# Altium footprint library SimpleFOCDriver.PcbLib: 14 footprints
Each footprint in its own frame and in the unit in brackets; x right, y up, seen from the top. Pads: shape width x height; smd on the part's side, far side on the other; paste and mask are expansions set on the pad; w line width, h text height; cw(c..) or ccw(c..) is an arc to the next point about the centre after c.
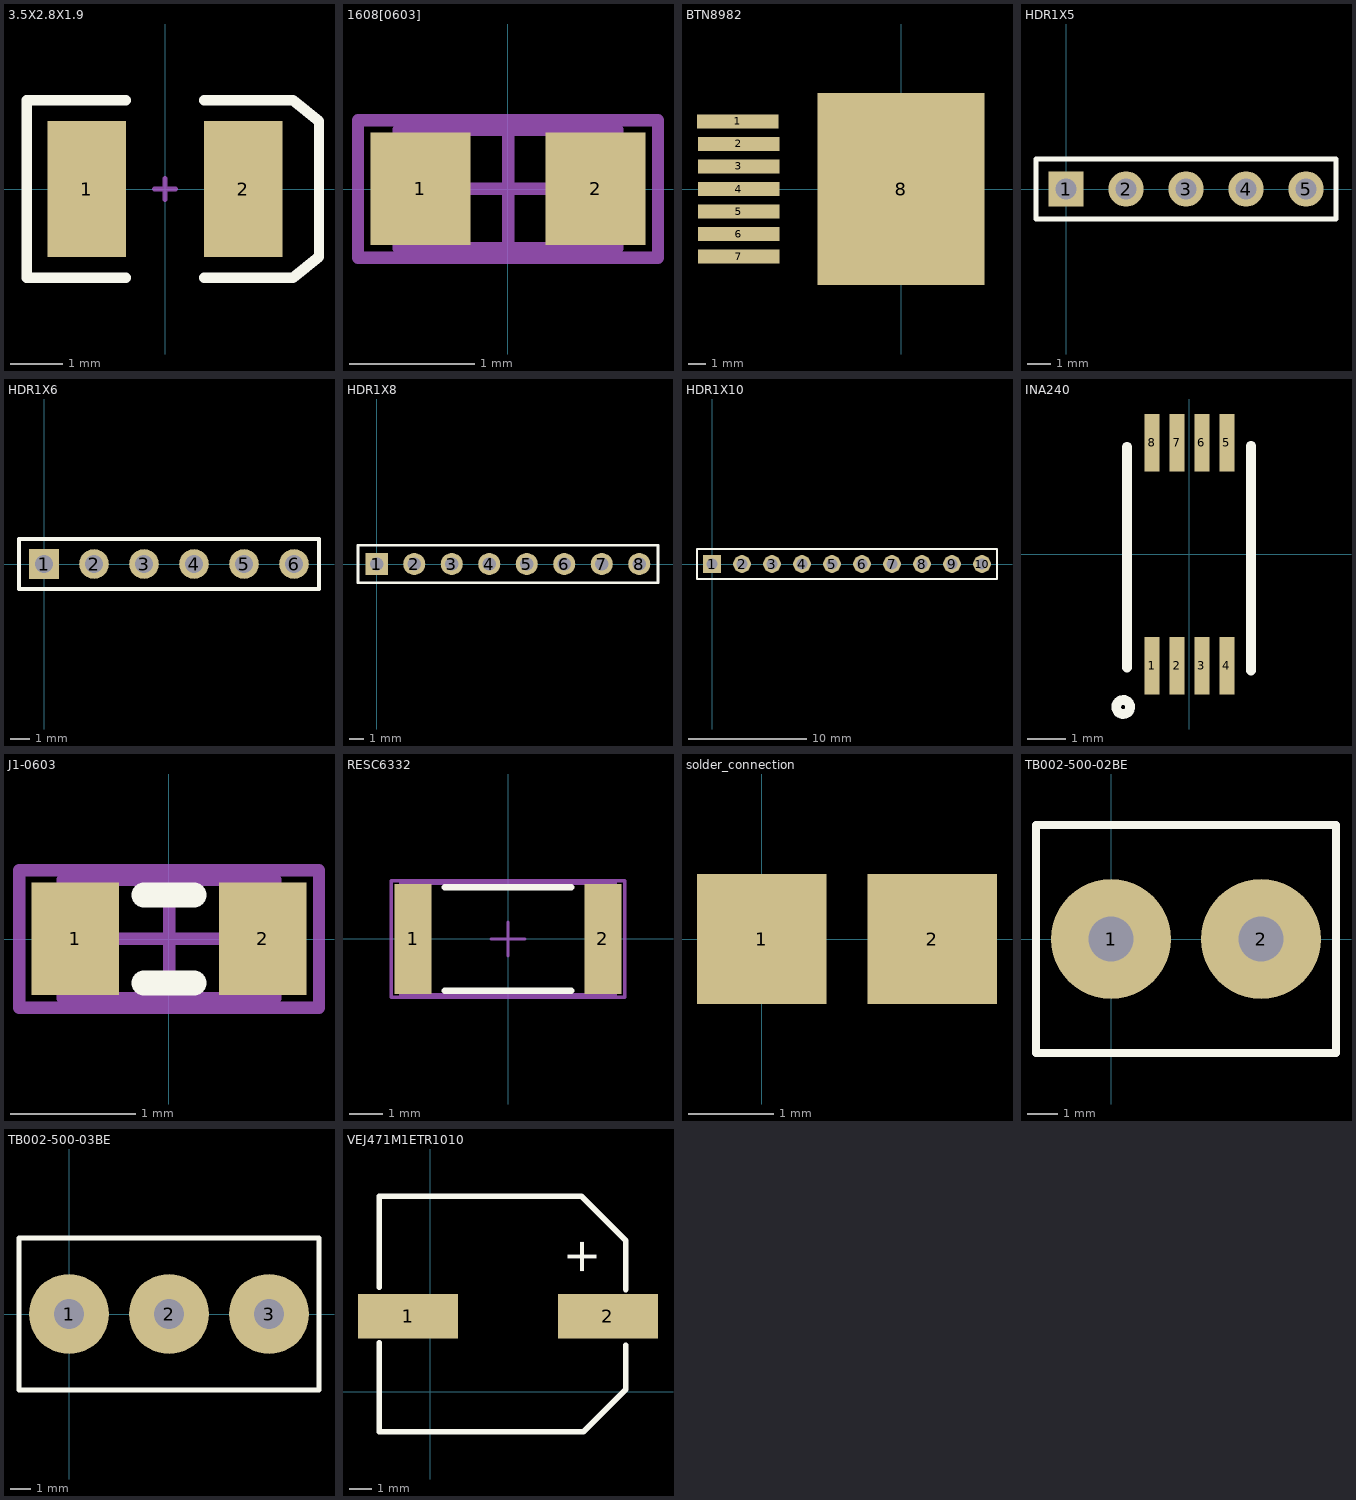
[diagram p0: the footprints below, top view; thin cyan lines are the x and y axes]

## 3.5X2.8X1.9 [mm] "SM LED; 2 C-Bend Leads; Body 3.5 x 2.8 x 1.9 mm, inc leads (LxWxH typ)"
height 1.9
pads (2):
  rect 1.5x2.6 smd: 1(-1.5,0) 2(1.5,0)
Top Overlay:
  lines w0.2: -0.75,-1.7 -2.65,-1.7 -2.65,1.7 -0.75,1.7 ; 0.75,-1.7 2.45,-1.7 2.95,-1.3 2.95,1.3 2.45,1.7 0.75,1.7
Mechanical 1:
  lines w0.1: -0.2,0 0.2,0 ; 0,-0.2 0,0.2

## 1608[0603] [mm] "Chip Capacitor, Body 1.6x0.8mm, IPC High Density"
height 1.3
pads (2):
  rect 0.8x0.9 smd: 1(-0.7,0) 2(0.7,0)
Mechanical 13:
  lines w0.1: -0.875,-0.475 -0.875,0.475 0.875,0.475 0.875,-0.475 -0.875,-0.475
Mechanical 15:
  lines w0.1: -0.475,0 0.475,0 ; 0,-0.475 0,0.475 ; -1.2,-0.55 -1.2,0.55 1.2,0.55 1.2,-0.55 -1.2,-0.55
3D body: height 1.3, standoff 0, extent -0.875,-0.475 0.875,0.475

## BTN8982 [mm] "Infineon BTN8982TA"
pads (8):
  rect 4.6x0.8 smd: 1(-9.2,3.81) 2(-9.15,2.54) 3(-9.15,1.27) 4(-9.15,0) 5(-9.15,-1.27) 6(-9.15,-2.54) 7(-9.15,-3.81)
  rect 9.4x10.8 smd: 8(0,0)
3D body "btn8982.STEP": height 4.4, standoff 0, extent -10.768,-4.968 4.182,5.032

## HDR1X5 [mm] "Connector; Header; 5 Position"
height 6.86
pads (5):
  rect 1.5x1.5 hole 0.9: 1(0,0)
  round 1.5 hole 0.9: 2(2.54,0) 3(5.08,0) 4(7.62,0) 5(10.16,0)
Top Overlay:
  lines w0.2: -1.27,-1.27 11.43,-1.27 11.43,1.27 -1.27,1.27 -1.27,-1.27

## HDR1X6 [mm] "Connector; Header; 6 Position"
pads (6):
  rect 1.5x1.5 hole 0.9: 1(0,0)
  round 1.5 hole 0.9: 2(2.54,0) 3(5.08,0) 4(7.62,0) 5(10.16,0) 6(12.7,0)
Top Overlay:
  lines w0.2: -1.27,-1.27 13.97,-1.27 13.97,1.27 -1.27,1.27 -1.27,-1.27

## HDR1X8 [mm] "Connector; Header; 8 Position"
pads (8):
  rect 1.5x1.5 hole 0.9: 1(0,0)
  round 1.5 hole 0.9: 2(2.54,0) 3(5.08,0) 4(7.62,0) 5(10.16,0) 6(12.7,0) 7(15.24,0) 8(17.78,0)
Top Overlay:
  lines w0.2: -1.27,-1.27 -1.27,1.27 19.05,1.27 19.05,-1.27 -1.27,-1.27

## HDR1X10 [mm] "Connector; Header; 10 Position"
pads (10):
  rect 1.5x1.5 hole 0.9: 1(0,0)
  round 1.5 hole 0.9: 2(2.54,0) 3(5.08,0) 4(7.62,0) 5(10.16,0) 6(12.7,0) 7(15.24,0) 8(17.78,0) 9(20.32,0) 10(22.86,0)
Top Overlay:
  lines w0.2: -1.27,-1.27 24.13,-1.27 24.13,1.27 0.635,1.27 -1.27,1.27 -1.27,-1.27

## INA240 [mm]
height 6.86
pads (8):
  rect 0.4x1.5 smd mask+0.05: 1(-0.975,-2.9) 2(-0.325,-2.9) 3(0.325,-2.9) 4(0.975,-2.9) 5(0.975,2.9) 6(0.325,2.9) 7(-0.325,2.9) 8(-0.975,2.9)
Top Overlay:
  lines w0.254: -1.764,-3.797 ccw(c-1.725,-3.975) -1.725,-3.793 ; -1.625,-2.95 -1.625,2.8 ; 1.6,-3.025 1.6,2.825
3D body "ina240.STEP": height 1.2, standoff 0, extent -1.5,-3.3 1.5,3.3

## J1-0603 [mm] "Chip Resistor, Body 1.6x0.8mm, IPC High Density"
height 0.9
pads (2):
  rect 0.7x0.9 smd: 1(-0.75,0) 2(0.75,0)
Top Overlay:
  lines w0.2: -0.2,-0.35 0.2,-0.35 ; -0.2,0.35 0.2,0.35
Mechanical 13:
  lines w0.1: -0.85,-0.475 0.85,-0.475 0.85,0.475 -0.85,0.475 -0.85,-0.475
Mechanical 15:
  lines w0.1: -0.475,0 0.475,0 ; 0,-0.475 0,0.475 ; -1.2,-0.55 1.2,-0.55 1.2,0.55 -1.2,0.55 -1.2,-0.55
3D body: height 0.9, standoff 0, extent -0.85,-0.475 0.85,0.475

## RESC6332 [mm] "Chip Resistor, Body 6.3x3.2mm, IPC High Density"
height 0.9
pads (2):
  rect 1.1x3.3 smd: 1(-2.85,0) 2(2.85,0)
Top Overlay:
  lines w0.2: -1.9,-1.55 1.9,-1.55 ; -1.9,1.55 1.9,1.55
Mechanical 13:
  lines w0.1: -3.225,-1.675 3.225,-1.675 3.225,1.675 -3.225,1.675 -3.225,-1.675
Mechanical 15:
  lines w0.1: -0.5,0 0.5,0 ; 0,-0.5 0,0.5 ; -3.5,-1.75 3.5,-1.75 3.5,1.75 -3.5,1.75 -3.5,-1.75
3D body: height 0.9, standoff 0, extent -3.225,-1.675 3.225,1.675

## solder_connection [mil]
height 270.08
pads (2):
  rect 60x60 smd: 1(0,0) 2(78.74,0)

## TB002-500-02BE [mm] "TB002-500-02BE"
pads (2):
  round 4 hole 1.5: 1(0,0) 2(5,0)
Top Overlay:
  lines w0.254: -2.5,-3.8 -2.5,3.8 7.5,3.8 7.5,-3.8 -2.5,-3.8
3D body "2.STEP": height 13.55, standoff -4.05, extent -2.5,-4.4 7.5,4.6

## TB002-500-03BE [mm] "TB002-500-03BE"
pads (3):
  round 4 hole 1.5: 1(0,0) 2(5,0) 3(10,0)
Top Layer:
  lines w0.254: 0,-0.08 0,0
Top Overlay:
  lines w0.254: -2.5,-3.8 -2.5,3.8 12.5,3.8 12.5,-3.8 -2.5,-3.8
3D body "37753.stp": height 13.8, standoff -3.5, extent -2.57,-5.2 13.171,4.6

## VEJ471M1ETR1010 [mm]
pads (2):
  rect 4.5x2 smd: 1(-1,3.4) 2(8,3.4)
Top Overlay:
  lines w0.254: -2.3,2.2 -2.3,-1.8 6.9,-1.8 8.8,0.1 8.8,2.1 ; -2.3,4.7 -2.3,8.8 6.8,8.8 8.8,6.8 8.8,4.6
  text "+" at 7.5,5.2 h1.52
3D body "User Library-cap_10x10x10-1.STEP": height 10.3, standoff -0.2, extent -2.8,-1.85 9,8.65